# Altium footprint library DCPBoard.PcbLib: 5 footprints
Each footprint in its own frame and in the unit in brackets; x right, y up, seen from the top. Pads: shape width x height; smd on the part's side, far side on the other; paste and mask are expansions set on the pad; w line width, h text height; cw(c..) or ccw(c..) is an arc to the next point about the centre after c.
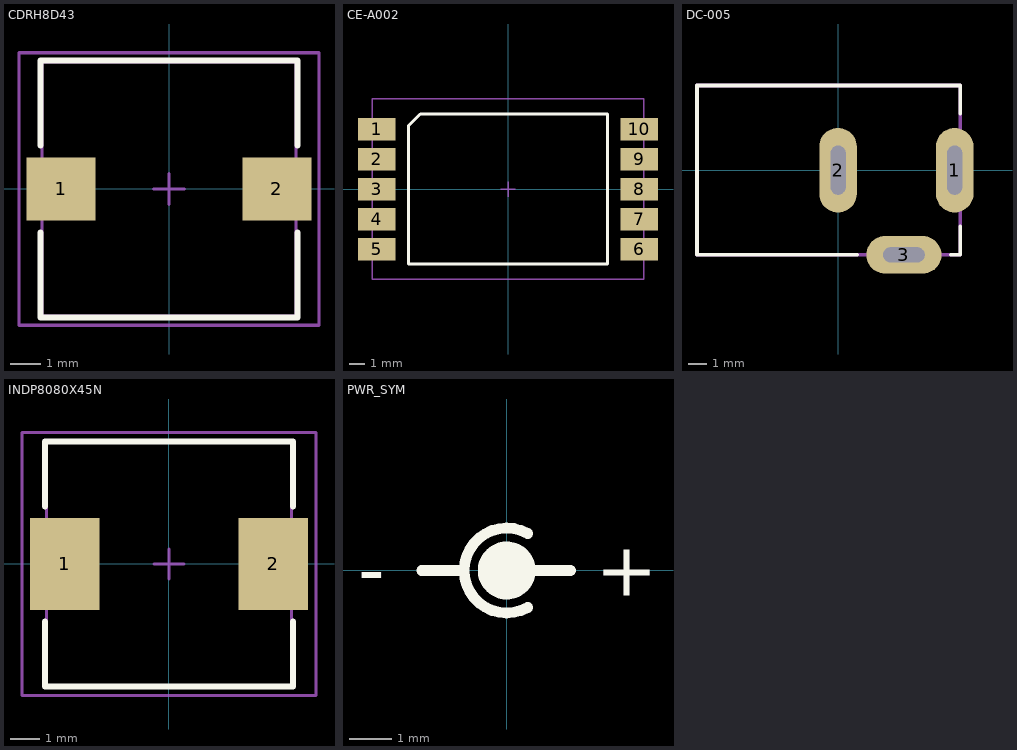
[diagram p0: the footprints below, top view; thin cyan lines are the x and y axes]

## CDRH8D43 [mm] "Molded Inductor, 2-Leads, Body 8.0x8.0mm, IPC Medium Density"
height 4.5
pads (2):
  rect 2.25x2.05 smd: 1(-3.525,0) 2(3.525,0)
Top Overlay:
  lines w0.2: -4.2,-1.425 -4.2,-4.2 4.2,-4.2 4.2,-1.425 ; -4.2,1.425 -4.2,4.2 4.2,4.2 4.2,1.425
Mechanical 13:
  lines w0.1: -4.15,-4.15 4.15,-4.15 4.15,4.15 -4.15,4.15 -4.15,-4.15
Mechanical 15:
  lines w0.1: -0.5,0 0.5,0 ; 0,-0.5 0,0.5 ; -4.9,-4.45 4.9,-4.45 4.9,4.45 -4.9,4.45 -4.9,-4.45
3D body: height 4.5, standoff 0, extent -4.15,-4.15 4.15,4.15

## CE-A002 [mm] "DC-DC模块封装"
pads (10):
  rect 2.5x1.5 smd: 1(-8.75,4) 2(-8.75,2) 3(-8.75,0) 4(-8.75,-2) 5(-8.75,-4) 6(8.75,-4) 7(8.75,-2) 8(8.75,0) 9(8.75,2) 10(8.75,4)
Top Overlay:
  lines w0.2: -6.65,-5 -6.65,4.2 -5.85,5 6.65,5 6.65,-5 -6.65,-5
Mechanical 13:
  lines w0.1: -9.05,-6 9.05,-6 9.05,6 -9.05,6 -9.05,-6
Mechanical 15:
  lines w0.1: -0.5,0 0.5,0 ; 0,-0.5 0,0.5
3D body: height 4, standoff 0, extent -9.05,-6 9.05,6

## DC-005 [mm] "电源插座"
pads (3):
  oval 2x4.5 hole 0.8 slot 2.6 at 90 deg: 1(6.2,0) 2(0,0)
  oval 4x2 hole 0.8 slot 2.2 at 0 deg: 3(3.5,-4.5)
Top Overlay:
  lines w0.2: 1,-4.5 -7.5,-4.5 -7.5,4.5 6.5,4.5 6.5,3 ; 6,-4.5 6.5,-4.5 6.5,-3
Mechanical 13:
  lines w0.2: -7.5,-4.5 -7.5,4.5 6.5,4.5 6.5,-4.5 -7.5,-4.5
3D body: height 11, standoff 0, extent -7.5,-4.5 6.5,4.5

## INDP8080X45N [mm] "Precision Wire Wound Inductor, 2-Leads, Body 8.0x8.0mm, IPC Medium Density"
height 4.5
pads (2):
  rect 2.35x3.1 smd: 1(-3.525,0) 2(3.525,0)
Top Overlay:
  lines w0.2: -4.2,-1.95 -4.2,-4.15 4.2,-4.15 4.2,-1.95 ; -4.2,1.95 -4.2,4.15 4.2,4.15 4.2,1.95
Mechanical 13:
  lines w0.1: -4.15,-4.15 4.15,-4.15 4.15,4.15 -4.15,4.15 -4.15,-4.15
Mechanical 15:
  lines w0.1: -0.5,0 0.5,0 ; 0,-0.5 0,0.5 ; -4.975,-4.45 4.975,-4.45 4.975,4.45 -4.975,4.45 -4.975,-4.45
3D body: height 4.5, standoff 0, extent -4.15,-4.15 4.15,4.15

## PWR_SYM [mm] "电源插头图标"
Top Overlay:
  circle w0.762: c0,0 r0.3
  lines w0.254: -2,0 -1,0 ; 0,0 1.5,0 ; 0.496,-0.868 cw(c0,0) 0.496,0.868
  text "-" at -3.5,-0.6 h1.27
  text "+" at 2.1,-0.6 h1.27